# Altium schematic symbol library LARS_409_USB.SCHLIB: 10 symbols
Pins are listed as number, name and electrical type; pins without a type are passive.

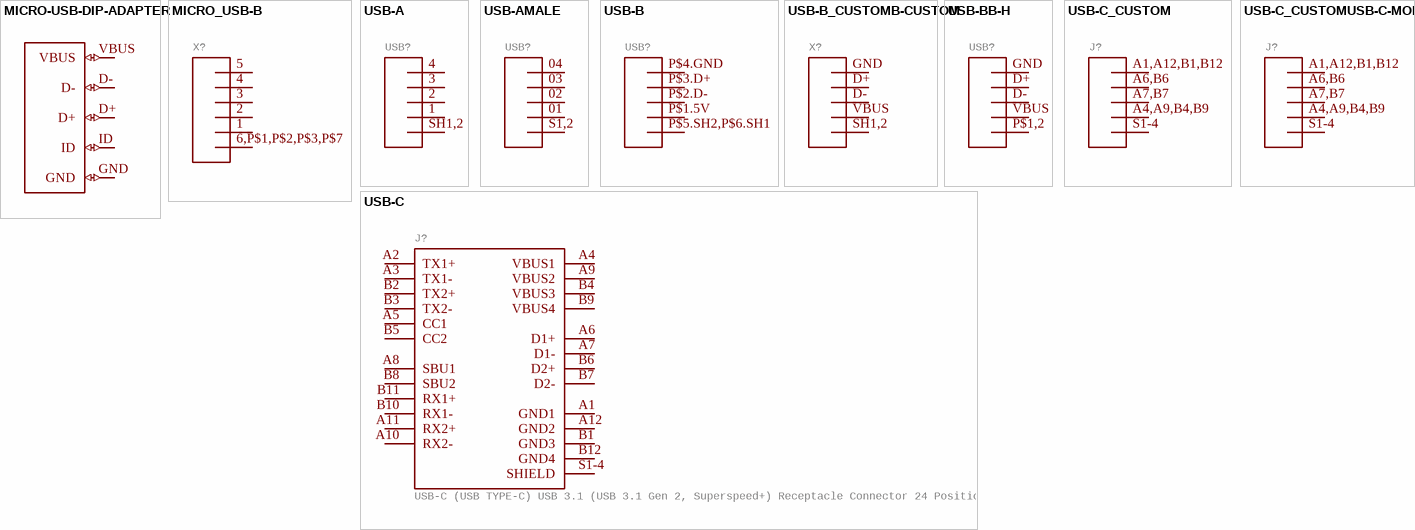
[diagram p0: symbols MICRO-USB-DIP-ADAPTER to USB-C_CUSTOMUSB-C-MOLEX]

## MICRO-USB-DIP-ADAPTER
designator ?
GateName_1: G$1; SymbolName_1: MICRO-USB; DeviceSetName: MICRO-USB-DIP-ADAPTER; LibraryName: LARS_409_USB; Package: MICRO-USB-DIP-ADAPTER
footprint MICRO-USB-DIP-ADAPTER
pins: D+ (io), D- (io), GND (io), ID (io), VBUS (io)

## MICRO_USB-B
designator X?
GateName_1: G$1; SymbolName_1: MICRO-USB-B; DeviceSetName: MICRO_USB-B; LibraryName: LARS_409_USB; Package: 1981584-1
footprint 1981584-1
pins: 1 5V, 2 D-, 3 D+, 4 ID, 5 GND, 6,P$1,P$2,P$3,P$7 SHIELD

## USB-A
designator USB?
GateName_1: G$1; SymbolName_1: USB-4; DeviceSetName: USB-A; LibraryName: LARS_409_USB; Package: A-VERTICAL
footprint A-VERTICAL
pins: 1 5V, 2 D-, 3 D+, 4 GND, SH1,2 SHIELD

## USB-AMALE
designator USB?
GateName_1: G$1; SymbolName_1: USB-4; DeviceName: MALE; DeviceSetName: USB-A; LibraryName: LARS_409_USB; Package: USB-AM-S-X-X-TH
footprint USB-AM-S-X-X-TH
pins: 01 5V, 02 D-, 03 D+, 04 GND, S1,2 SHIELD

## USB-B
designator USB?
GateName_1: G$1; SymbolName_1: USB-4; DeviceSetName: USB-B; LibraryName: LARS_409_USB; Package: B-VERTICAL
footprint B-VERTICAL
pins: P$1.5V 5V, P$2.D- D-, P$3.D+ D+, P$4.GND GND, P$5.SH2,P$6.SH1 SHIELD

## USB-B_CUSTOMB-CUSTOM
designator X?
GateName_1: G$1; SymbolName_1: USB-4; DeviceName: B-CUSTOM; DeviceSetName: USB-B_CUSTOM; LibraryName: LARS_409_USB; Package: USB-B_CUSTOM
footprint USB-B_CUSTOM
pins: D+, D-, GND, SH1,2 SHIELD, VBUS 5V

## USB-BB-H
designator USB?
GateName_1: G$1; SymbolName_1: USB-4; DeviceName: B-H; DeviceSetName: USB-B; LibraryName: LARS_409_USB; Package: USB-BH
footprint USB-BH
pins: D+, D-, GND, P$1,2 SHIELD, VBUS 5V

## USB-C
designator J?, comment USB-C (USB TYPE-C) USB 3.1 (USB 3.1 Gen 2, Superspeed+) Receptacle Connector 24 Position Surface Mount, Right Angle; Through Hole Check prices
GateName_1: G$1; DESCRIPTION: USB-C (USB TYPE-C) USB 3.2 Gen 2 (USB 3.1 Gen 2, Superspeed + (USB 3.1)) Receptacle Connector 24 Position Surface Mount, Right Angle; Through Hole; MF: Molex; MP: 2012670005; SymbolName_1: USB-C; LibraryName: LARS_409_USB; DeviceSetName: USB-C; Package: USB-C_MOLEX; AVAILABILITY: In Stock; PACKAGE: None; PRICE: None; PURCHASE-URL: https://pricing.snapeda.com/search/part/2012670005/?ref=eda
footprint USB-C_MOLEX
pins: A1 GND1 (power), A2 TX1+, A3 TX1-, A4 VBUS1 (power), A5 CC1, A6 D1+, A7 D1-, A8 SBU1, A9 VBUS2 (power), A10 RX2-, A11 RX2+, A12 GND2 (power), B1 GND3 (power), B2 TX2+, B3 TX2-, B4 VBUS3 (power), B5 CC2, B6 D2+, B7 D2-, B8 SBU2, B9 VBUS4 (power), B10 RX1-, B11 RX1+, B12 GND4 (power), S1-4 SHIELD (power)

## USB-C_CUSTOM
designator J?
GateName_1: G$1; SymbolName_1: USB-4; DeviceSetName: USB-C_CUSTOM; LibraryName: LARS_409_USB; Package: USB-C_MOLEX
footprint USB-C_MOLEX
pins: A1,A12,B1,B12 GND, A4,A9,B4,B9 5V, A6,B6 D+, A7,B7 D-, S1-4 SHIELD

## USB-C_CUSTOMUSB-C-MOLEX
designator J?
GateName_1: G$1; SymbolName_1: USB-4; DeviceName: USB-C-MOLEX; DeviceSetName: USB-C_CUSTOM; LibraryName: LARS_409_USB; Package: USB-C_CUSTOM
footprint USB-C_CUSTOM
pins: A1,A12,B1,B12 GND, A4,A9,B4,B9 5V, A6,B6 D+, A7,B7 D-, S1-4 SHIELD